# EAGLE library part TLW-128-06-T-D (library SAMTEC-Txx_By_element14_Batch_1)
LOW PROFILE HEADER, DOUBLE ROW, 56 way
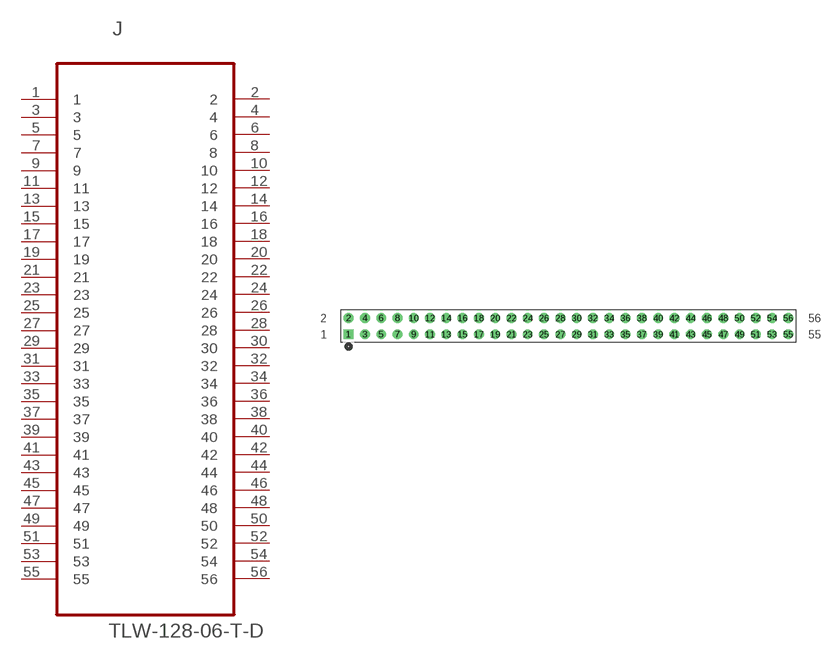
[diagram p327: symbol with the pads of SAMTEC_TLW-128-06-T-D; footprint SAMTEC_TLW-128-06-T-D]

Designator prefix J

## TLW-128-06-T-D (MPN: TLW-128-06-T-D; OC_FARNELL: -; OC_NEWARK: 12P0573; PACKAGE: LOW PROFILE HEADER; SUPPLIER: SAMTEC)  [SAMTEC_TLW-128-06-T-D]
1  1  pas
2  2  pas
3  3  pas
4  4  pas
5  5  pas
6  6  pas
7  7  pas
8  8  pas
9  9  pas
10  10  pas
11  11  pas
12  12  pas
13  13  pas
14  14  pas
15  15  pas
16  16  pas
17  17  pas
18  18  pas
19  19  pas
20  20  pas
21  21  pas
22  22  pas
23  23  pas
24  24  pas
25  25  pas
26  26  pas
27  27  pas
28  28  pas
29  29  pas
30  30  pas
31  31  pas
32  32  pas
33  33  pas
34  34  pas
35  35  pas
36  36  pas
37  37  pas
38  38  pas
39  39  pas
40  40  pas
41  41  pas
42  42  pas
43  43  pas
44  44  pas
45  45  pas
46  46  pas
47  47  pas
48  48  pas
49  49  pas
50  50  pas
51  51  pas
52  52  pas
53  53  pas
54  54  pas
55  55  pas
56  56  pas

## Footprint SAMTEC_TLW-128-06-T-D (pad centres in mm)
drill 1.016 square: 1 -68.58,-2.54
drill 1.016: 2 -68.58,0; 3 -66.04,-2.54; 4 -66.04,0; 5 -63.5,-2.54; 6 -63.5,0; 7 -60.96,-2.54; 8 -60.96,0; 9 -58.42,-2.54; 10 -58.42,0; 11 -55.88,-2.54; 12 -55.88,0; 13 -53.34,-2.54; 14 -53.34,0; 15 -50.8,-2.54; 16 -50.8,0; 17 -48.26,-2.54; 18 -48.26,0; 19 -45.72,-2.54; 20 -45.72,0; 21 -43.18,-2.54; 22 -43.18,0; 23 -40.64,-2.54; 24 -40.64,0; 25 -38.1,-2.54; 26 -38.1,0; 27 -35.56,-2.54; 28 -35.56,0; 29 -33.02,-2.54; 30 -33.02,0; 31 -30.48,-2.54; 32 -30.48,0; 33 -27.94,-2.54; 34 -27.94,0; 35 -25.4,-2.54; 36 -25.4,0; 37 -22.86,-2.54; 38 -22.86,0; 39 -20.32,-2.54; 40 -20.32,0; 41 -17.78,-2.54; 42 -17.78,0; 43 -15.24,-2.54; 44 -15.24,0; 45 -12.7,-2.54; 46 -12.7,0; 47 -10.16,-2.54; 48 -10.16,0; 49 -7.62,-2.54; 50 -7.62,0; 51 -5.08,-2.54; 52 -5.08,0; 53 -2.54,-2.54; 54 -2.54,0; 55 0,-2.54; 56 0,0